# EAGLE library part SN75176BDR (library ICs)
RS422 / RS485 Transceiver, 4.75V-5.25V Supply, SOIC-8
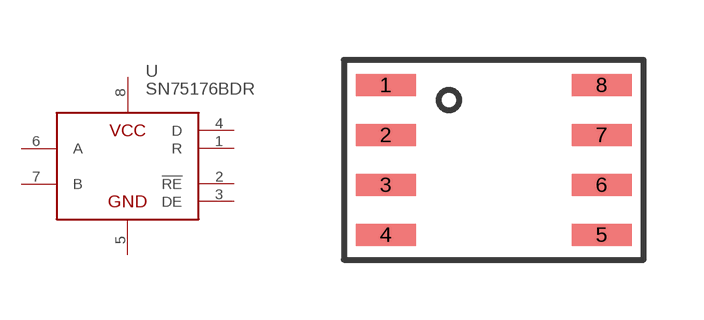
[diagram p129: symbol with the pads of SO8; footprint SO8]

Designator prefix U

## SN75176BDR (FARNELL: 2395904; PRICE_PER: 0.471; VALUE: SN75176)  [SO8]
1  R
2  !RE
3  DE
4  D
5  GND
6  A
7  B
8  VCC

## Footprint SO8 (pad centres in mm)
smd 1.5 x 0.55: 1 -2.7,1.875; 2 -2.7,0.625; 3 -2.7,-0.625; 4 -2.7,-1.875; 5 2.7,-1.875; 6 2.7,-0.625; 7 2.7,0.625; 8 2.7,1.875